# EAGLE library part S7B-PH-* (library jst-ph)
Wire-to-Board 2.0mm pitch side mount connector Source: http://www.jst-mfg.com/product/pdf/jpn/PH.pdf http://www.jst-mfg.com/product/detail.php?series=199
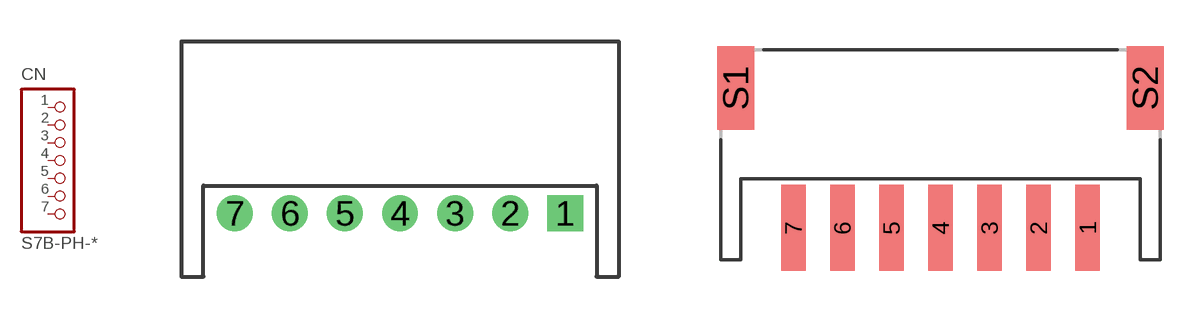
[diagram p12: symbol with the pads of S7B-PH-K-S; footprints S7B-PH-K-S, S7B-PH-SM4-TB]

Designator prefix CN

## S7B-PH-K-S  [S7B-PH-K-S]
1  1  pas
2  2  pas
3  3  pas
4  4  pas
5  5  pas
6  6  pas
7  7  pas

## S7B-PH-SM4-TB  [S7B-PH-SM4-TB]
Pads as for S7B-PH-K-S

## Footprint S7B-PH-K-S (pad centres in mm)
drill 0.8 square: 1 6,0
drill 0.8: 2 4,0; 3 2,0; 4 0,0; 5 -2,0; 6 -4,0; 7 -6,0

## Footprint S7B-PH-SM4-TB (pad centres in mm)
smd 1 x 3.5: 1 6,-1; 2 4,-1; 3 2,-1; 4 0,-1; 5 -2,-1; 6 -4,-1; 7 -6,-1
smd 1.5 x 3.4: S1 -8.35,4.7; S2 8.35,4.7